# EAGLE library part VOLTIMETRO (library ecar)
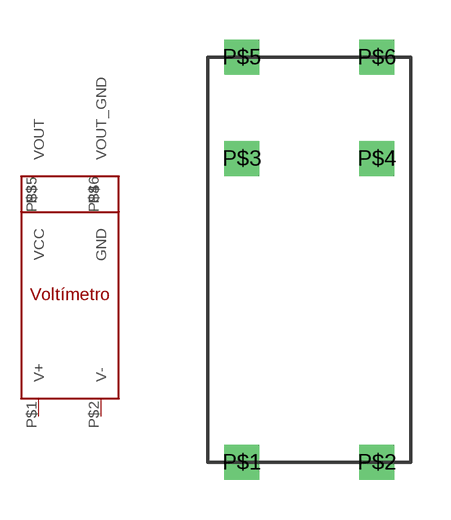
[diagram p3: symbol with the pads of VOLTIMETRO; footprint VOLTIMETRO]

Designator prefix -

## VOLTIMETRO  [VOLTIMETRO]
P$1  V+
P$2  V-
P$3  VCC
P$4  GND
P$5  VOUT
P$6  VOUT_GND

## Footprint VOLTIMETRO (pad centres in mm)
drill 0.8 square: P$1 1.27,0; P$2 6.35,0; P$3 1.27,11.43; P$4 6.35,11.43; P$5 1.27,15.24; P$6 6.35,15.24